# Altium footprint library 2314170-1.PcbLib: 1 footprints
Each footprint in its own frame and in the unit in brackets; x right, y up, seen from the top. Pads: shape width x height; smd on the part's side, far side on the other; paste and mask are expansions set on the pad; w line width, h text height; cw(c..) or ccw(c..) is an arc to the next point about the centre after c.
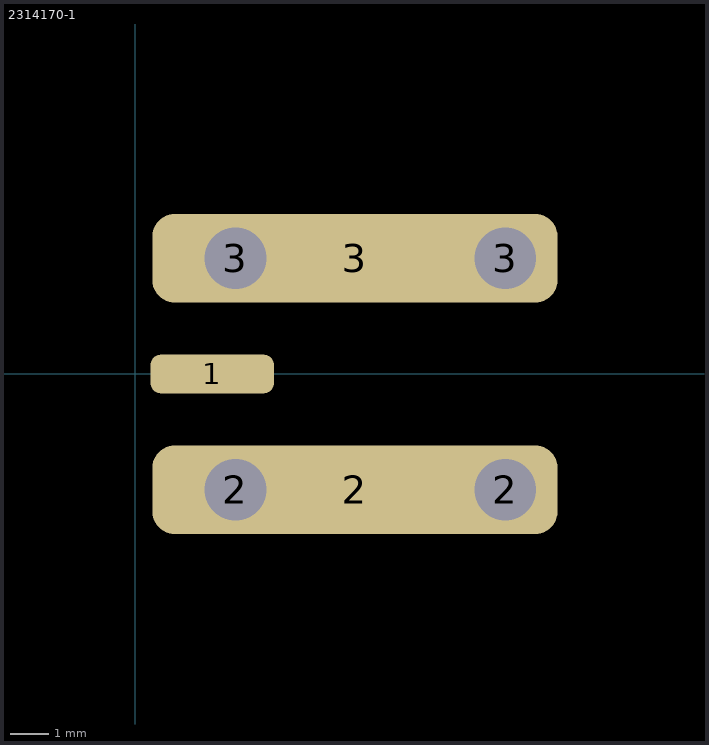
[diagram p0: the footprint, top view; thin cyan lines are the x and y axes]

## 2314170-1 [mm] "1POS,FAKRA AUT,HDR ASSY,90DEG,COD A"
pads (7):
  rrect50% 3.2x1 smd: 1(2,0)
  round 2 hole 1.6: 2(2.6,-3) 2(9.6,-3) 3(2.6,3) 3(9.6,3)
  rrect50% 10.5x2.3 smd: 2(5.7,-3) 3(5.7,3)
3D body "c-2314170-1-a-3d.stp": height 6.68, standoff -3.31, extent -11.25,-3.75 10.95,3.75